# EAGLE library part BU5004-R (library matrix-led)
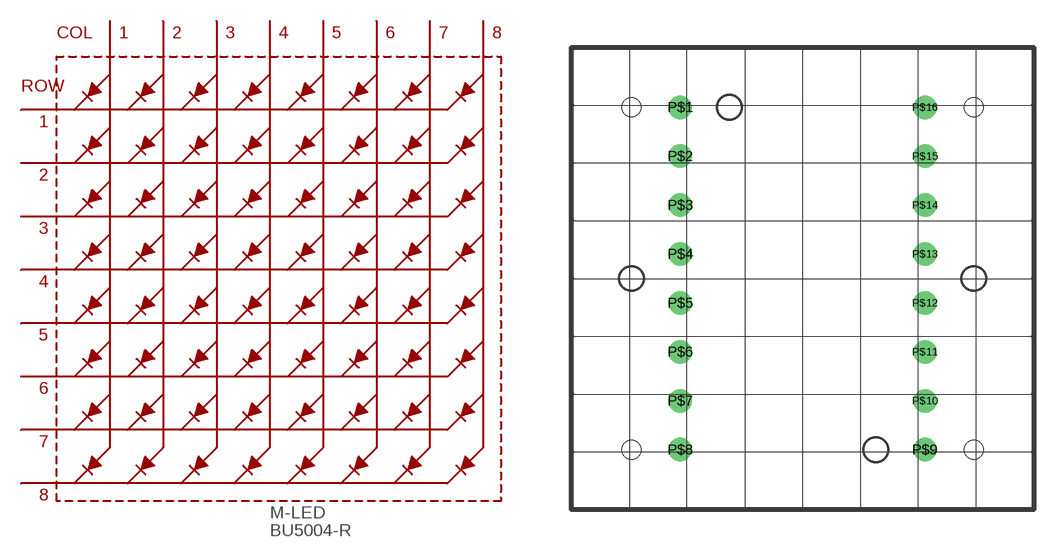
[diagram p0: symbol with the pads of BU5004-R; footprint BU5004-R]

Designator prefix M-LED

## BU5004-R  [BU5004-R]
P$1  R$2
P$2  C$4  in
P$3  C$3  in
P$4  C$2  in
P$5  R$5
P$6  R$6
P$7  C$1  in
P$8  R$8
P$9  R$7
P$10  C$5  in
P$11  C$6  in
P$12  C$7  in
P$13  R$4
P$14  R$3
P$15  C$8  in
P$16  R$1

## Footprint BU5004-R (pad centres in mm)
drill 0.711 round: P$1 -6.35,8.89; P$2 -6.35,6.35; P$3 -6.35,3.81; P$4 -6.35,1.27; P$5 -6.35,-1.27; P$6 -6.35,-3.81; P$7 -6.35,-6.35; P$8 -6.35,-8.89; P$9 6.35,-8.89; P$10 6.35,-6.35; P$11 6.35,-3.81; P$12 6.35,-1.27; P$13 6.35,1.27; P$14 6.35,3.81; P$15 6.35,6.35; P$16 6.35,8.89
hole 0.991 at -8.89,8.89
hole 0.991 at -8.89,-8.89
hole 0.991 at 8.89,-8.89
hole 0.991 at 8.89,8.89